# Altium footprint library SOP65P1420X360-36N.PcbLib: 1 footprints
Each footprint in its own frame and in the unit in brackets; x right, y up, seen from the top. Pads: shape width x height; smd on the part's side, far side on the other; paste and mask are expansions set on the pad; w line width, h text height; cw(c..) or ccw(c..) is an arc to the next point about the centre after c.
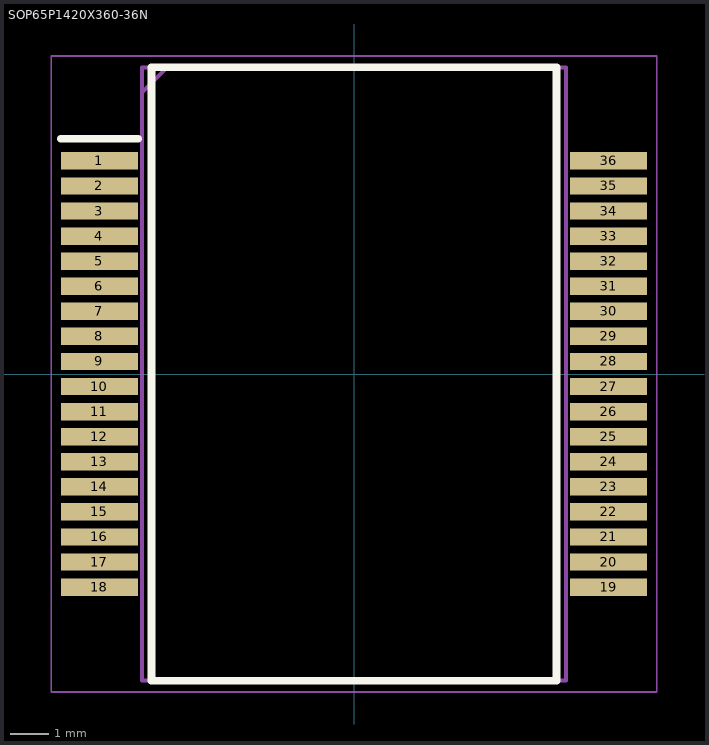
[diagram p0: the footprint, top view; thin cyan lines are the x and y axes]

## SOP65P1420X360-36N [mm]
pads (36):
  rect 2x0.45 smd: 1(-6.6,5.525) 2(-6.6,4.875) 3(-6.6,4.225) 4(-6.6,3.575) 5(-6.6,2.925) 6(-6.6,2.275) 7(-6.6,1.625) 8(-6.6,0.975) 9(-6.6,0.325) 10(-6.6,-0.325) 11(-6.6,-0.975) 12(-6.6,-1.625) 13(-6.6,-2.275) 14(-6.6,-2.925) 15(-6.6,-3.575) 16(-6.6,-4.225) 17(-6.6,-4.875) 18(-6.6,-5.525) 19(6.6,-5.525) 20(6.6,-4.875) 21(6.6,-4.225) 22(6.6,-3.575) 23(6.6,-2.925) 24(6.6,-2.275) 25(6.6,-1.625) 26(6.6,-0.975) 27(6.6,-0.325) 28(6.6,0.325) 29(6.6,0.975) 30(6.6,1.625) 31(6.6,2.275) 32(6.6,2.925) 33(6.6,3.575) 34(6.6,4.225) 35(6.6,4.875) 36(6.6,5.525)
Top Overlay:
  lines w0.2: -7.6,6.1 -5.6,6.1 ; -5.25,-7.95 5.25,-7.95 5.25,7.95 -5.25,7.95 -5.25,-7.95
Mechanical 15:
  lines w0.1: -5.5,7.3 -4.85,7.95 ; -5.5,-7.95 5.5,-7.95 5.5,7.95 -5.5,7.95 -5.5,-7.95
Mechanical 20:
  lines w0.05: -7.85,-8.25 7.85,-8.25 7.85,8.25 -7.85,8.25 -7.85,-8.25